# EAGLE library part 750317123 (library WE-POE)
WE-PoE Power over Ethernet Transformer Characteristics Flyback transformer designed for PoE PDs Input voltage: 36 V to 57 V Switching frequencies: 200–500 kHz Operating temperature: –40 ºC to +125 ºC Isolation voltage: 1.5 kVAC/1 min Different output powers and voltages available Applications PoE powered devices IP Phones WLAN Access Points Access control terminals Security cameras <https://www.we-online.com/components/media/o766301v209%20Family-POE.jpg> Details see: www.we-online.com/en/components/products/WE-POE <www.we-online.com/catalog/WE-POE/?utm_source=eagle_model&utm_medium=description_link&utm_campaign=eisos_eagle> Updated by Ella 2024-01-09 2024 (C) Wurth Elektronik
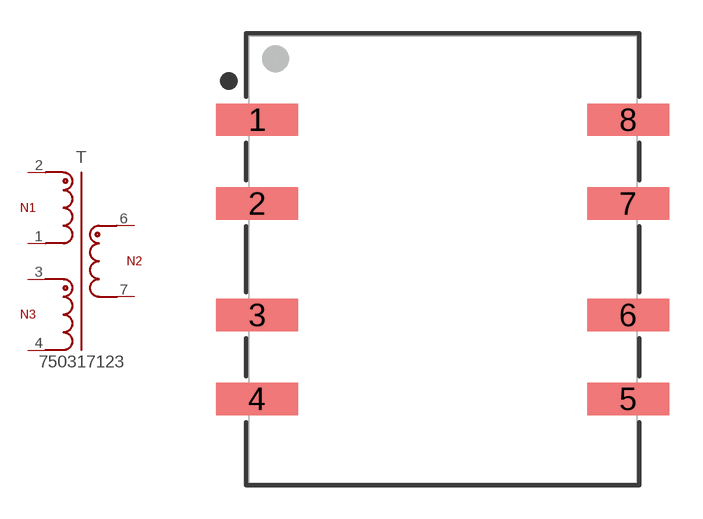
[diagram p36: symbol with the pads of WE-POE_RM6; footprint WE-POE_RM6]

Designator prefix T

## 750317123 (DATASHEET-URL: https://www.we-online.com/redexpert/spec/750317123?ae; IO1: 1A; L: 82uH; MOUNT: SMT; N: 2.5:1:0.75; PART-NUMBER: 750317123; SIZE: RM6; VALUE: 750317123; VERSION: Flyback; VIN: 32 - 57 V (DC); VO1: 12V; VT: 1500VAC)  [WE-POE_RM6]
1  1  pas
2  2  pas
3  3  pas
4  4  pas
6  6  pas
7  7  pas

## Footprint WE-POE_RM6 (pad centres in mm)
WE-PoE Power over Ethernet Transformer RM6, SMT, 8Pins
smd 3.68 x 1.45: 1 -8.325,6.26; 2 -8.325,2.5; 3 -8.325,-2.5; 4 -8.325,-6.26; 5 8.325,-6.26; 6 8.325,-2.5; 7 8.325,2.5; 8 8.325,6.26